# Altium footprint library Pcblibv2.PcbLib: 97 footprints (part 2 of 7)
Each footprint in its own frame and in the unit in brackets; x right, y up, seen from the top. Pads: shape width x height; smd on the part's side, far side on the other; paste and mask are expansions set on the pad; w line width, h text height; cw(c..) or ccw(c..) is an arc to the next point about the centre after c.
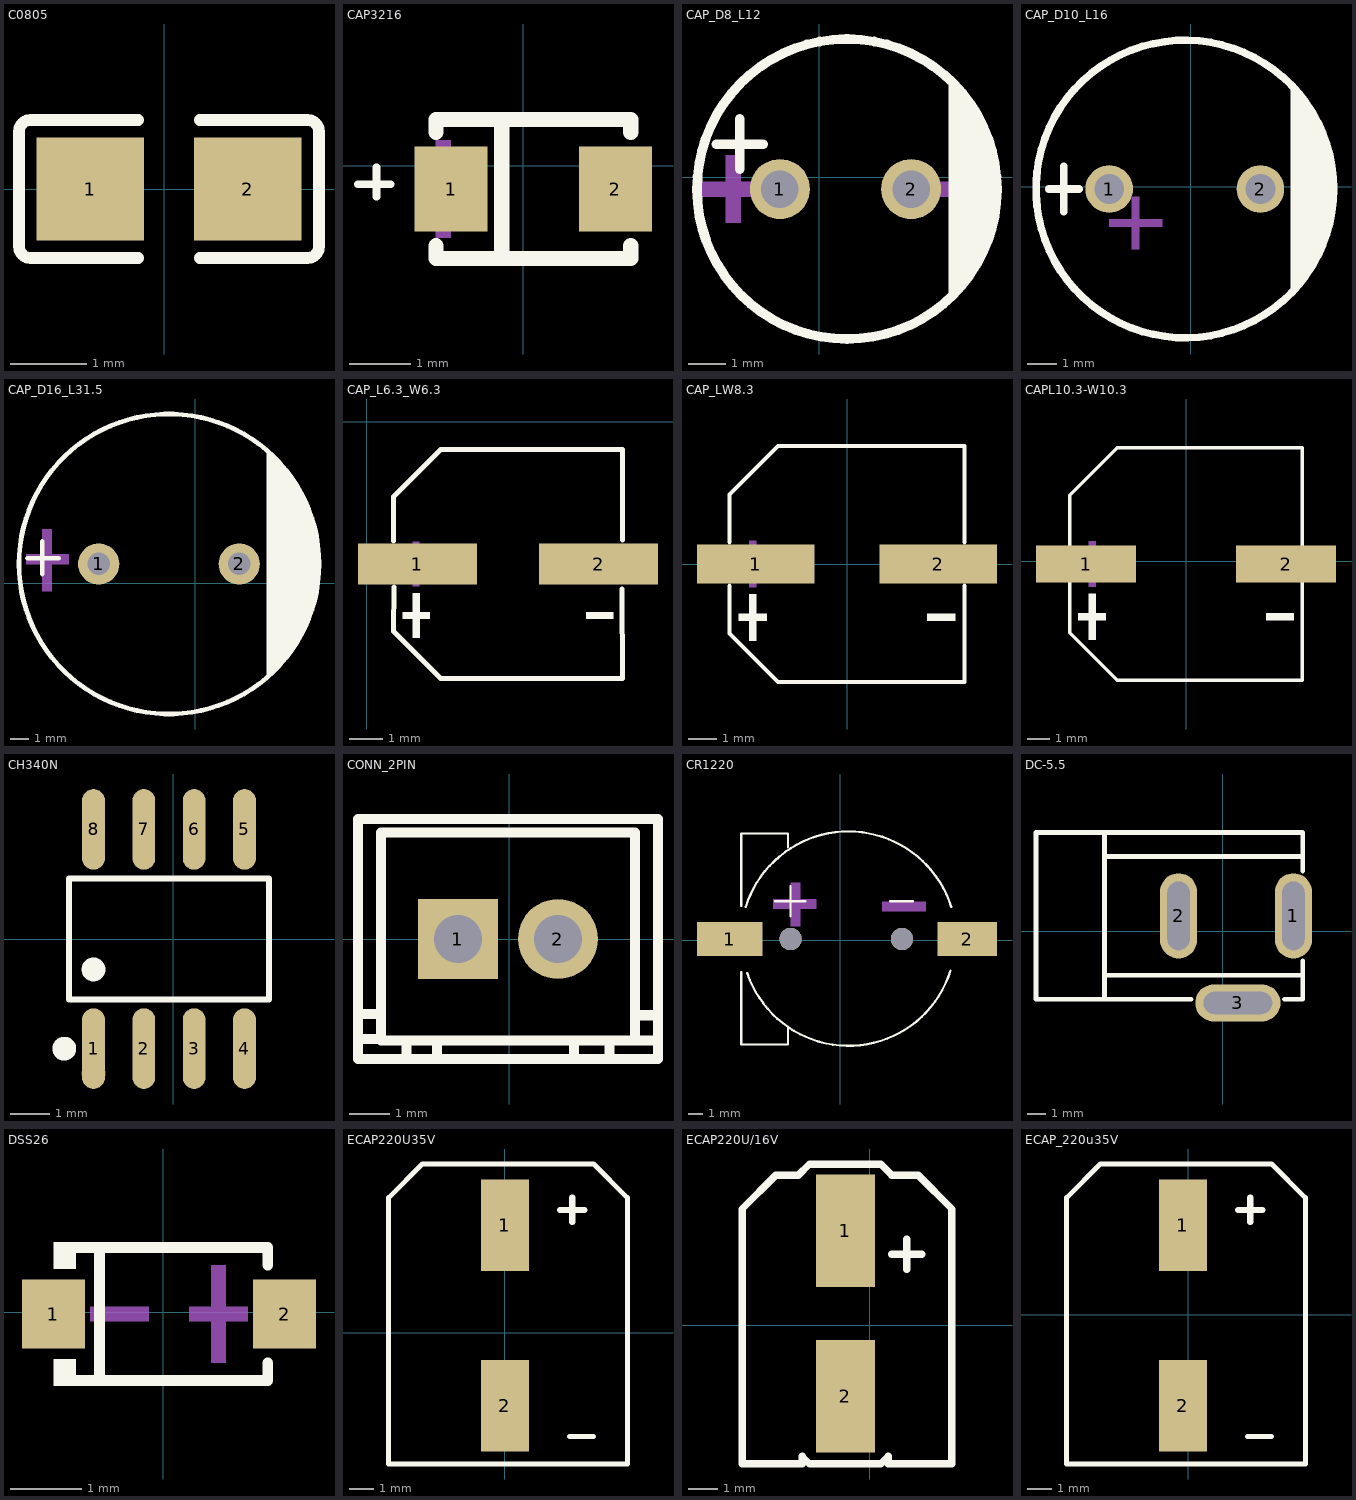
[diagram p1: the footprints below, top view; thin cyan lines are the x and y axes]

## C0805 [mm]
pads (2):
  rect 1.41x1.35 smd: 1(-0.97,0) 2(1.09,0)
Top Overlay:
  lines w0.152: -0.342,-0.904 -1.752,-0.904 cw(c-1.752,-0.751) -1.904,-0.751 -1.904,0.751 cw(c-1.752,0.751) -1.752,0.904 -0.342,0.904 ; 0.461,-0.904 1.871,-0.904 ccw(c1.871,-0.751) 2.023,-0.751 2.023,0.751 ccw(c1.871,0.751) 1.871,0.904 0.461,0.904

## CAP3216 [mm] "钽电容"
pads (2):
  rect 1.2x1.4 smd: 1(-1.186,-0.381) 2(1.514,-0.381)
Top Overlay:
  lines w0.127: -2.718,-0.305 -2.184,-0.305 ; -2.413,-0.508 -2.413,-0.025
  lines w0.254: -1.436,-1.312 -1.436,-1.524 0.036,-1.524 1.764,-1.524 1.764,-1.312 ; -1.436,0.55 -1.436,0.762 1.764,0.762 1.764,0.55 ; -0.356,-1.524 -0.356,0.762
Mechanical 15:
  region: 1.644,-0.321 1.644,-0.441 1.164,-0.441 1.164,-0.321
  region: -1.316,-0.321 -1.316,-0.441 -0.836,-0.441 -0.836,-0.321
  region: -1.136,0.019 -1.136,-0.781 -1.016,-0.781 -1.016,0.019
  region: -1.436,0.419 -1.436,0.019 -1.196,0.019 -1.196,0.419
  region: -1.436,-1.181 -1.436,-0.781 -1.196,-0.781 -1.196,-1.181

## CAP_D8_L12 [mm]
pads (2):
  round 1.6 hole 1 paste+0 mask+0.051: 1(-1.052,-0.319) 2(2.448,-0.319)
Top Overlay:
  region: 3.448,-3.319 3.639,-3.119 3.966,-2.674 4.234,-2.191 4.439,-1.678 4.578,-1.143 4.648,-0.595 4.648,-0.042 4.578,0.506 4.439,1.04 4.234,1.553 3.966,2.036 3.639,2.481 3.448,2.681
  lines w0.254: -2.747,0.881 -1.502,0.881 ; -2.124,0.208 -2.124,1.554 ; 0.701,3.682 ccw(c0.736,-0.318) 0.772,3.682
Mechanical 15:
  region: 4.198,-0.119 2.798,-0.119 2.798,-0.519 4.398,-0.519 4.598,-0.519 4.598,-0.119
  region: -1.802,-0.119 -3.202,-0.119 -3.202,-0.519 -1.602,-0.519 -1.402,-0.519 -1.402,-0.119
  region: -2.502,0.181 -2.502,-1.219 -2.102,-1.219 -2.102,0.381 -2.102,0.581 -2.502,0.581

## CAP_D10_L16 [mm]
pads (2):
  round 1.6 hole 1 paste+0 mask+0.051: 1(-2.742,-0.08) 2(2.338,-0.08)
Top Overlay:
  circle w0.254: c-0.202,-0.08 r5
  region: 3.354,3.476 3.354,-3.636 4.116,-2.62 4.624,-1.096 4.878,0.428 4.624,1.444
  lines w0.254: -4.774,-0.08 -3.758,-0.08 ; -4.266,-0.842 -4.266,0.682
Mechanical 15:
  region: -2.742,-1.096 -0.964,-1.096 -0.964,-1.35 -2.742,-1.35
  region: -1.98,-0.842 -1.98,-2.112 -1.726,-2.112 -1.726,-0.334 -1.98,-0.334

## CAP_D16_L31.5 [mm]
pads (2):
  round 2.2 hole 1.2 paste+0 mask+0.051: 1(-5.148,1.015) 2(2.352,1.015)
Top Overlay:
  circle w0.254: c-1.398,1.015 r8
  region: 3.809,-5.081 4.137,-4.799 4.728,-4.167 5.248,-3.475 5.691,-2.731 6.051,-1.945 6.326,-1.124 6.51,-0.278 6.603,0.582 6.603,1.448 6.51,2.308 6.326,3.154 6.051,3.975 5.691,4.761 5.248,5.505 4.728,6.197 4.137,6.829 3.809,7.111
  lines w0.254: -8.951,1.32 -7.275,1.32 ; -8.164,0.482 -8.164,2.209
Mechanical 15:
  region: -9.018,1.523 -6.732,1.523 -6.732,1.015 -9.018,1.015
  region: -8.152,2.866 -7.644,2.866 -7.644,-0.436 -8.152,-0.436
  region: 6.302,0.815 4.016,0.815 4.016,1.323 6.302,1.323

## CAP_L6.3_W6.3 [mm]
pads (2):
  rect 3.5x1.2 smd: 1(1.491,-4.186) 2(6.831,-4.186)
Top Overlay:
  region: 1.356,-5.044 1.356,-6.364 1.554,-6.364 1.554,-5.044
  region: 1.059,-5.605 1.059,-5.803 1.851,-5.803 1.851,-5.605
  region: 7.263,-5.605 7.263,-5.803 6.471,-5.803 6.471,-5.605
  lines w0.152: 0.784,-3.5 0.784,-2.206 2.18,-0.81 7.537,-0.81 7.53,-3.478 ; 0.798,-4.872 0.785,-6.167 2.179,-7.562 7.536,-7.562 7.516,-4.925
Mechanical 15:
  region: 1.351,-3.526 1.351,-4.846 1.549,-4.846 1.549,-3.526
  region: 1.059,-4.087 1.059,-4.285 1.851,-4.285 1.851,-4.087
  region: 7.263,-4.087 7.263,-4.285 6.471,-4.285 6.471,-4.087

## CAP_LW8.3 [mm]
pads (2):
  rect 4.2x1.4 smd: 1(-3.267,0) 2(3.267,0)
Top Overlay:
  region: 3.876,-1.785 3.876,-2.033 2.88,-2.033 2.88,-1.785
  region: -3.876,-1.785 -3.876,-2.033 -2.88,-2.033 -2.88,-1.785
  region: -3.503,-1.079 -3.503,-2.739 -3.254,-2.739 -3.254,-1.079
  lines w0.152: -4.201,-0.782 -4.201,-2.49 -2.465,-4.226 4.201,-4.226 4.201,-0.782 ; -4.201,0.782 -4.201,2.49 -2.465,4.226 4.201,4.226 4.201,0.782
Mechanical 15:
  region: 3.876,0.125 3.876,-0.125 2.88,-0.125 2.88,0.125
  region: -3.876,0.125 -3.876,-0.125 -2.88,-0.125 -2.88,0.125
  region: -3.503,0.83 -3.503,-0.83 -3.254,-0.83 -3.254,0.83

## CAPL10.3-W10.3 [mm]
pads (2):
  rect 4.5x1.65 smd: 1(-4.503,-0.127) 2(4.497,-0.127)
Top Overlay:
  region: 4.838,-2.341 4.838,-2.65 3.602,-2.65 3.602,-2.341
  region: -4.844,-2.341 -4.844,-2.65 -3.608,-2.65 -3.608,-2.341
  region: -4.38,-1.466 -4.38,-3.526 -4.071,-3.526 -4.071,-1.466
  lines w0.152: -5.229,-0.979 -5.229,-3.217 -3.093,-5.353 5.224,-5.353 5.224,-0.979 ; -5.229,0.725 -5.229,2.963 -3.093,5.099 5.224,5.099 5.224,0.725
Mechanical 15:
  region: 4.838,0.028 4.838,-0.282 3.602,-0.282 3.602,0.028
  region: -4.844,0.028 -4.844,-0.282 -3.608,-0.282 -3.608,0.028
  region: -4.38,0.903 -4.38,-1.157 -4.071,-1.157 -4.071,0.903

## CH340N [mm]
pads (8):
  oval 0.574x2.036 smd: 1(-2.012,-2.768) 2(-0.742,-2.768) 3(0.528,-2.768) 4(1.798,-2.768) 5(1.798,2.768) 6(0.528,2.768) 7(-0.742,2.768) 8(-2.012,2.768)
Top Overlay:
  circle w0.3: c-2.751,-2.768 r0.15
  circle w0.3: c-2.012,-0.769 r0.15
  lines w0.152: -2.633,-1.521 2.419,-1.521 2.419,1.521 -2.633,1.521 -2.633,-1.521
Mechanical 15:
  circle w0.3: c-2.012,-3.398 r0.15

## CONN_2PIN [mm] "锂电池接插件2PIN"
pads (2):
  rect 2x2 hole 1.2: 1(-1.276,0)
  round 2 hole 1.2: 2(1.224,0)
Top Overlay:
  lines w0.254: -3.776,-1.875 -3.276,-1.875 ; -1.804,-3 -1.804,-2.667 ; 3.149,-2.54 3.724,-2.54 ; 3.149,-1.905 3.724,-1.905 ; -3.776,-3 -3.776,3 3.725,3 3.725,-3 -3.775,-3 ; -3.776,-2.5 -3.276,-2.5 -3.776,-2.5 ; -3.201,-2.54 -3.201,2.667 3.149,2.667 3.149,-2.54 -3.201,-2.54 ; -2.566,-3 -2.566,-2.54 -2.566,-3 ; 1.625,-3 1.625,-2.54 1.625,-3 ; 2.514,-3 2.514,-2.54 2.514,-3

## CR1220 [mm] "纽扣电池座"
pads (4):
  rect 4.4x2.3 smd: 1(-7.448,0.101)
  rect 4x2.3 smd: 2(8.552,0.101)
  round 1.5 hole 1.5 unplated: ""(-3.348,0.101) ""(4.152,0.101)
Top Overlay:
  lines w0.15: -6.668,-2.13 -6.668,-7.011 -3.512,-7.011 -3.512,-5.811 ; -6.668,2.332 -6.668,7.213 -3.512,7.213 -3.512,6.271 ; -6.359,2.276 cw(c0.552,0.101) 7.47,2.255 ; -6.264,-2.197 ccw(c0.552,0.101) 7.423,-2.023 ; -4.376,2.641 -2.344,2.641 ; -3.36,1.625 -3.36,3.657 ; 3.371,2.641 4.895,2.641
Mechanical 15:
  circle w0.5: c4.133,0.101 r0.25
  circle w0.5: c-3.36,0.101 r0.25
  region: -4.528,2.768 -1.607,2.768 -1.607,2.133 -4.528,2.133
  region: -3.346,0.974 -3.346,3.895 -2.711,3.895 -2.711,0.974
  region: 2.823,2.617 5.744,2.617 5.744,1.982 2.823,1.982

## DC-5.5 [mm] "DC充电插座"
pads (3):
  oval 2x4.6 hole 1.2 slot 3.7 at 90 deg: 1(3.802,0.834) 2(-2.397,0.835)
  oval 4.6x2 hole 1.2 slot 3.7 at 0 deg: 3(0.803,-3.866)
Top Overlay:
  lines w0.254: -6.397,-3.665 -6.397,5.335 ; -6.317,-2.365 4.303,-2.365 ; -6.317,4.034 4.303,4.034 ; -1.712,-3.665 -10.097,-3.665 -10.097,5.335 4.303,5.335 4.303,3.259 ; 3.317,-3.665 4.303,-3.665 4.303,-1.59

## DSS26 [mm]
pads (2):
  rect 0.88x0.96 smd: 1(-1.53,-0.026) 2(1.69,-0.026)
Top Overlay:
  region: -1.22,0.977 -1.22,0.607 -1.525,0.607 -1.525,0.977
  region: -1.22,-1.028 -1.22,-0.658 -1.525,-0.658 -1.525,-1.028
  lines w0.152: -1.296,-0.952 1.456,-0.952 1.456,-0.709 ; -1.296,0.9 1.456,0.9 1.456,0.657 ; -0.887,-0.952 -0.887,0.9
Mechanical 15:
  region: -1.016,0.076 -1.016,-0.128 -0.2,-0.128 -0.2,0.076
  region: 1.176,0.076 1.176,-0.128 0.36,-0.128 0.36,0.076
  region: 0.87,0.654 0.87,-0.706 0.666,-0.706 0.666,0.654

## ECAP220U35V [mm]
pads (2):
  rect 2x3.8 smd: 1(0,4.47) 2(0,-3.023)
Top Overlay:
  lines w0.203: 2.667,-4.293 3.683,-4.293 ; -4.826,-5.436 -4.826,5.613 -3.429,7.01 3.683,7.01 5.08,5.613 5.08,-5.436 -4.826,-5.436
  lines w0.254: 2.286,5.105 3.302,5.105 ; 2.794,4.597 2.794,5.613

## ECAP220U/16V [mm]
pads (2):
  rect 2x3.8 smd: 1(-0.818,3.198) 2(-0.818,-2.402)
Top Overlay:
  lines w0.254: -4.318,1.778 -4.318,3.937 -3.175,5.08 -2.413,5.08 -2.032,5.461 0.381,5.461 0.762,5.08 1.651,5.08 2.794,3.937 2.794,-4.699 0.635,-4.699 0.635,-4.445 0.381,-4.699 -2.032,-4.699 -2.286,-4.445 -2.286,-4.699 -4.318,-4.699 -4.318,1.905 ; 0.762,2.413 1.778,2.413 ; 1.27,1.905 1.27,2.921

## ECAP_220u35V [mm]
pads (2):
  rect 2x3.8 smd: 1(-0.229,3.708) 2(-0.229,-3.785)
Top Overlay:
  lines w0.203: 2.438,-5.055 3.454,-5.055 ; -5.055,-6.198 4.851,-6.198 4.851,4.851 3.454,6.248 -3.658,6.248 -5.055,4.851 -5.055,-6.198
  lines w0.254: 2.057,4.343 3.073,4.343 ; 2.565,3.835 2.565,4.851